# Altium footprint library HDR-TH_7P-P2.54-V_2021-01-11.PcbLib: 1 footprints
Each footprint in its own frame and in the unit in brackets; x right, y up, seen from the top. Pads: shape width x height; smd on the part's side, far side on the other; paste and mask are expansions set on the pad; w line width, h text height; cw(c..) or ccw(c..) is an arc to the next point about the centre after c.
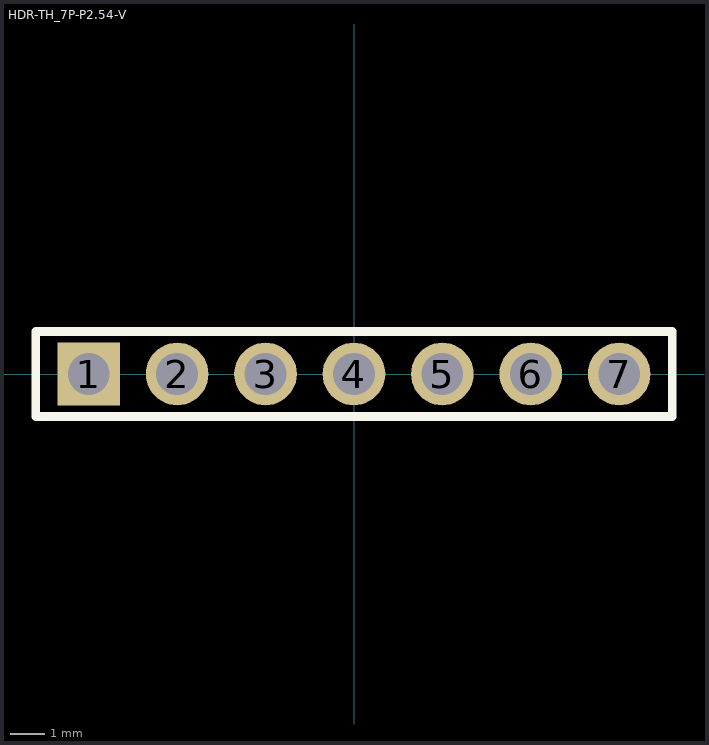
[diagram p0: the footprint, top view; thin cyan lines are the x and y axes]

## HDR-TH_7P-P2.54-V [mm]
pads (7):
  rect 1.8x1.8 hole 1.2: 1(-7.622,0)
  round 1.8 hole 1.2: 2(-5.082,0) 3(-2.542,0) 4(-0.002,0) 5(2.538,0) 6(5.078,0) 7(7.618,0)
Top Overlay:
  lines w0.254: 9.138,-1.22 -9.142,-1.22 -9.142,1.22 9.138,1.22 ; 9.142,-1.22 9.142,1.22